# EAGLE library part SSQ-126-XX-XXX-D (library SSQ-126-XX-XXX-D)
ASSEMBLY, SOCKET STRIP .025[0.64] SQ TAIL.
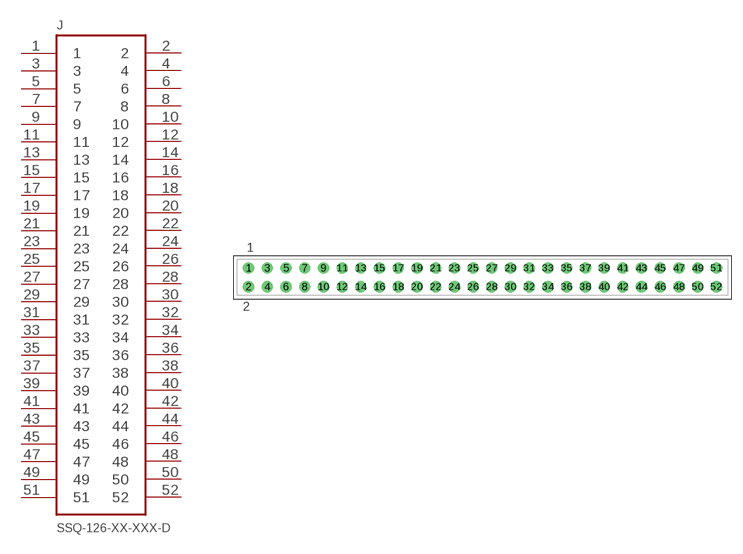
[diagram p0: symbol with the pads of SSQ-126-XX-XXX-D; footprint SSQ-126-XX-XXX-D]

Designator prefix J

## SSQ-126-XX-XXX-D  [SSQ-126-XX-XXX-D]
1  1
2  2
3  3
4  4
5  5
6  6
7  7
8  8
9  9
10  10
11  11
12  12
13  13
14  14
15  15
16  16
17  17
18  18
19  19
20  20
21  21
22  22
23  23
24  24
25  25
26  26
27  27
28  28
29  29
30  30
31  31
32  32
33  33
34  34
35  35
36  36
37  37
38  38
39  39
40  40
41  41
42  42
43  43
44  44
45  45
46  46
47  47
48  48
49  49
50  50
51  51
52  52

## Footprint SSQ-126-XX-XXX-D (pad centres in mm)
ASSEMBLY, SOCKET STRIP .025[0.64] SQ TAIL.
drill 1.016 pad 1.524: 1 -31.75,0; 2 -31.75,-2.54; 3 -29.21,0; 4 -29.21,-2.54; 5 -26.67,0; 6 -26.67,-2.54; 7 -24.13,0; 8 -24.13,-2.54; 9 -21.59,0; 10 -21.59,-2.54; 11 -19.05,0; 12 -19.05,-2.54; 13 -16.51,0; 14 -16.51,-2.54; 15 -13.97,0; 16 -13.97,-2.54; 17 -11.43,0; 18 -11.43,-2.54; 19 -8.89,0; 20 -8.89,-2.54; 21 -6.35,0; 22 -6.35,-2.54; 23 -3.81,0; 24 -3.81,-2.54; 25 -1.27,0; 26 -1.27,-2.54; 27 1.27,0; 28 1.27,-2.54; 29 3.81,0; 30 3.81,-2.54; 31 6.35,0; 32 6.35,-2.54; 33 8.89,0; 34 8.89,-2.54; 35 11.43,0; 36 11.43,-2.54; 37 13.97,0; 38 13.97,-2.54; 39 16.51,0; 40 16.51,-2.54; 41 19.05,0; 42 19.05,-2.54; 43 21.59,0; 44 21.59,-2.54; 45 24.13,0; 46 24.13,-2.54; 47 26.67,0; 48 26.67,-2.54; 49 29.21,0; 50 29.21,-2.54; 51 31.75,0; 52 31.75,-2.54